# Altium schematic symbol library CQ-USB-C16PSMT01.SchLib: 1 symbol
Pins are listed as number, name and electrical type; pins without a type are passive.

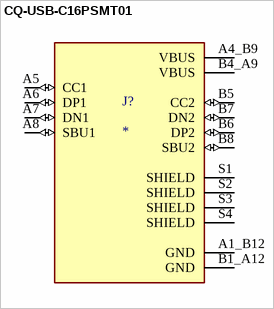
[diagram p0: symbol CQ-USB-C16PSMT01]

## CQ-USB-C16PSMT01
designator J?
C Type USB Type-C Female Plug 16 Pin Connector Power Charger Jack Port; MP: CQ-USB-C16PSMT01; MF: Shenzen Chuangqin Technology; Price: None; Package: Package; Availability: Unavailable; SnapEDA_Link: https://www.snapeda.com/parts/CQ-USB-C16PSMT01/Shenzen%20Chuangqin%20Technology/view-part/5798994/?ref=snap; Check_prices: https://www.snapeda.com/parts/CQ-USB-C16PSMT01/Shenzen%20Chuangqin%20Technology/view-part/5798994/?ref=eda; Value: *
footprint SHENZHEN-CHUANGQIN-TECHNOLOGY_CQ-USB-C16PSMT01
pins: A1_B12 GND (power), A4_B9 VBUS (power), A5 CC1 (io), A6 DP1 (io), A7 DN1 (io), A8 SBU1 (io), B1_A12 GND (power), B4_A9 VBUS (power), B5 CC2 (io), B6 DP2 (io), B7 DN2 (io), B8 SBU2 (io), S1 SHIELD, S2 SHIELD, S3 SHIELD, S4 SHIELD